# EAGLE library part ES636 (library IC)
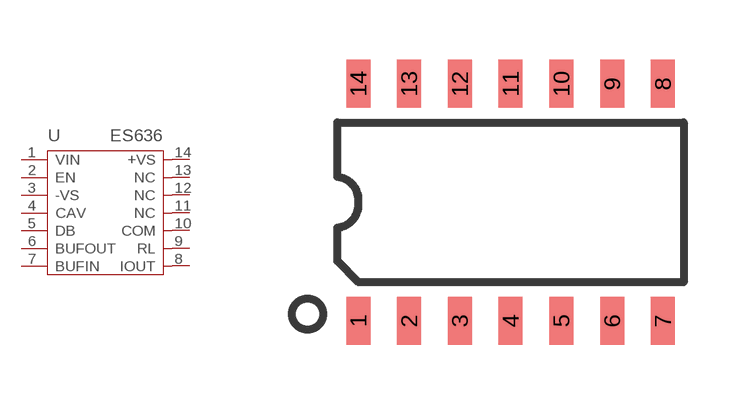
[diagram p177: symbol with the pads of SOP14-6X8.66; footprint SOP14-6X8.66]

Designator prefix U

## ES636  [SOP14-6X8.66]
1  VIN  in
2  EN  in
3  -VS  sup
4  CAV
5  DB
6  BUFOUT  out
7  BUFIN  in
8  IOUT  out
9  RL
10  COM  sup
11  NC  nc
12  NC  nc
13  NC  nc
14  +VS  sup

## Footprint SOP14-6X8.66 (pad centres in mm)
smd 0.6 x 1.2: 1 -3.81,-2.965; 2 -2.54,-2.965; 3 -1.27,-2.965; 4 0,-2.965; 5 1.27,-2.965; 6 2.54,-2.965; 7 3.81,-2.965; 8 3.81,2.965; 9 2.54,2.965; 10 1.27,2.965; 11 0,2.965; 12 -1.27,2.965; 13 -2.54,2.965; 14 -3.81,2.965